# Altium footprint library Nucleo_Dory_QFN68.PcbLib: 55 footprints (part 4 of 4)
Each footprint in its own frame and in the unit in brackets; x right, y up, seen from the top. Pads: shape width x height; smd on the part's side, far side on the other; paste and mask are expansions set on the pad; w line width, h text height; cw(c..) or ccw(c..) is an arc to the next point about the centre after c.
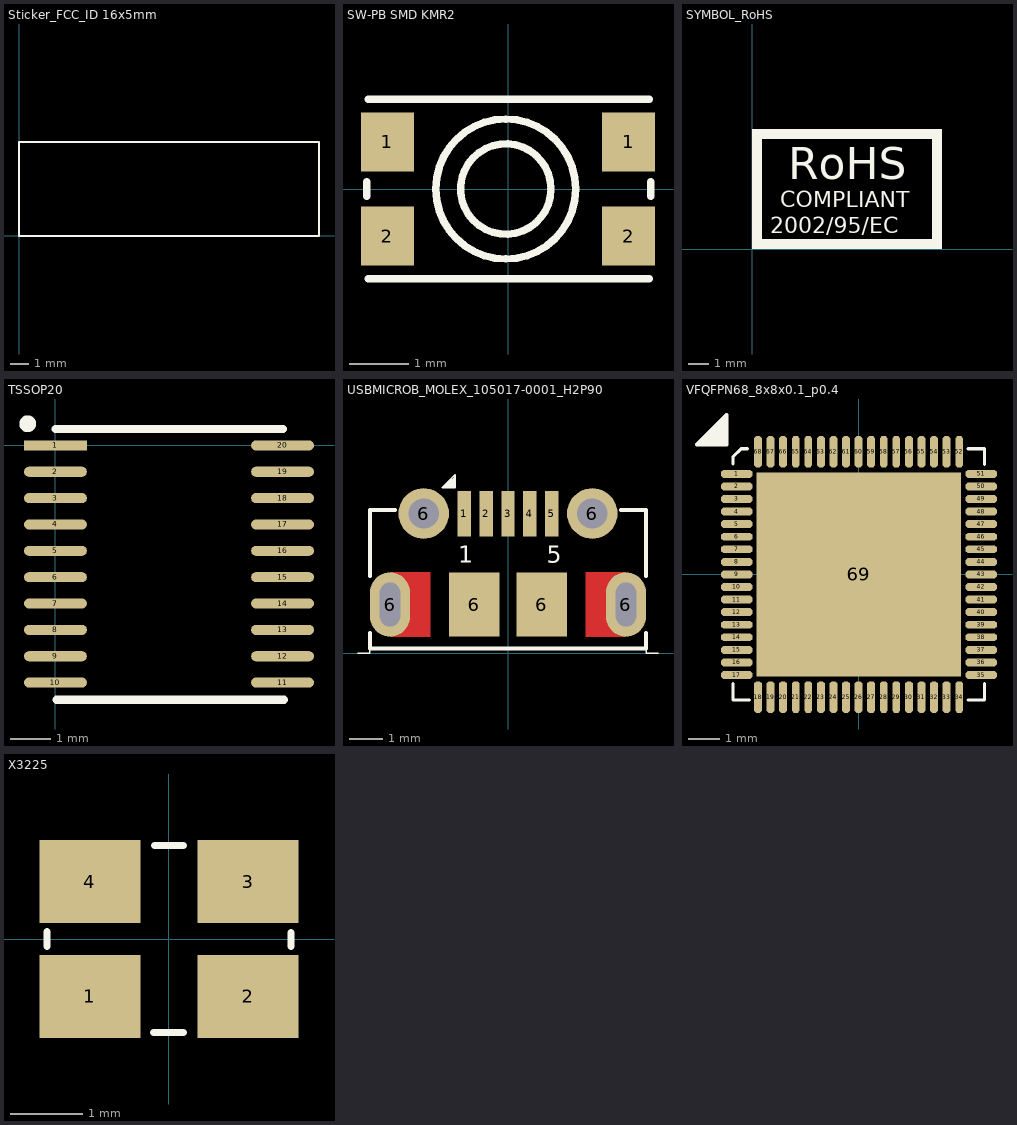
[diagram p3: the footprints below, top view; thin cyan lines are the x and y axes]

## Sticker_FCC_ID 16x5mm [mm]
Top Overlay:
  lines w0.1: 0,0 16,0 16,5 0,5 0,0
3D body: height 3.1, standoff 3, extent 0,0 16,5

## SW-PB SMD KMR2 [mm]
pads (4):
  rect 0.9x1 smd: 1(-2.05,0.8) 1(2.05,0.8) 2(-2.05,-0.8) 2(2.05,-0.8)
Top Overlay:
  circle w0.127: c-0.038,0 r0.769
  circle w0.127: c-0.038,0 r1.19
  lines w0.127: -2.4,-0.125 -2.4,0.125 ; -2.375,-1.525 2.4,-1.525 ; -2.375,1.525 2.4,1.525 ; 2.425,-0.125 2.425,0.125
3D body: height 1.79, standoff 0, extent -2.413,-1.524 2.413,1.524
3D body: height 2.52, standoff 1.79, extent -0.98,-0.923 0.912,0.974

## SYMBOL_RoHS [mm]
Top Overlay:
  rectangle: 0,0 9,0.5
  rectangle: 0,5.5 9,6
  region: 0.498,0 0.498,6 -0.002,6 -0.002,0
  region: 9.498,0 9.498,6 8.998,6 8.998,0
  text "RoHS" at 1.8,3.5 h1.6
  text "COMPLIANT" at 1.4,2.1 h0.8
  text "2002/95/EC" at 0.9,0.8 h0.8

## TSSOP20 [mm]
pads (20):
  rect 1.55x0.25 smd: 1(0,0)
  oval 1.55x0.25 smd: 2(0,-0.65) 3(0,-1.3) 4(0,-1.95) 5(0,-2.6) 6(0,-3.25) 7(0,-3.9) 8(0,-4.55) 9(0,-5.2) 10(0,-5.85) 11(5.6,-5.85) 12(5.6,-5.2) 13(5.6,-4.55) 14(5.6,-3.9) 15(5.6,-3.25) 16(5.6,-2.6) 17(5.6,-1.95) 18(5.6,-1.3) 19(5.6,-0.65) 20(5.6,0)
Top Overlay:
  circle w0.254: c-0.686,0.533 r0.08
  lines w0.2: 0,0.406 5.613,0.406 ; 0.025,-6.274 5.639,-6.274
3D body "TSSOP-20-2.STEP": height 1.2, standoff 0, extent -0.431,-6.171 5.969,0.329

## USBMICROB_MOLEX_105017-0001_H2P90 [mm]
pads (11):
  rect 0.4x1.35 smd mask+0.05: 1(-1.3,4.15) 2(-0.65,4.15) 3(0,4.15) 4(0.65,4.15) 5(1.3,4.15)
  oval 1.2x1.9 hole 0.6 slot 1.3 at 90 deg mask+0.05: 6(-3.5,1.45) 6(3.5,1.45)
  round 1.5 hole 0.9 mask+0.05: 6(-2.5,4.15) 6(2.5,4.15)
  rect 1.5x1.9 smd mask+0.05: 6(-1,1.45) 6(1,1.45)
Top Layer:
  region: 2.3,2.4 3.5,2.4 3.5,0.5 2.3,0.5
  region: -3.5,2.4 -2.3,2.4 -2.3,0.5 -3.5,0.5
Top Overlay:
  lines w0.05: -4.45,0 -4.1,0 -4.1,0.15 ; -1.599,5.025 -1.701,5.025 -1.625,4.999 -1.599,5.075 -1.802,4.974 -1.625,4.974 -1.599,4.923 -1.599,5.152 -1.777,4.948 -1.853,4.974 -1.574,5.228 -1.828,4.948 -1.904,4.948 -1.574,5.304 ; 4.1,0.15 4.1,0 4.45,0 ; -1.574,5.304 -1.955,4.923 -1.574,4.923 -1.574,5.304
  lines w0.12: -4.1,0.6 -4.1,0.15 4.1,0.15 4.1,0.6 ; -4.1,2.3 -4.1,4.25 -3.35,4.25 ; 3.35,4.25 4.1,4.25 4.1,2.3
  text "5" at 1.15,2.69 h0.51
  text "1" at -1.481,2.69 h0.51
Top Solder:
  region: -3.5,2.45 -2.25,2.45 -2.25,0.45 -3.5,0.45
  region: 2.25,2.45 3.5,2.45 3.5,0.45 2.25,0.45
Mechanical 27:
  text "PCB" at -5.65,-0.48 h0.51
  text "5" at 1.2,3.74 h0.51
  text "1" at -1.431,3.74 h0.51
  text "EDGE" at 4.563,-0.48 h0.51
3D body "MOLEX_105017-0001.stp": height 2.68, standoff -0.63, extent -4.1,-1.15 4.1,4.25
3D body: height 2.9, standoff 0, extent -3.999,0.001 3.999,4.599
3D body: height 2.9, standoff 0, extent -4.06,-0.76 4.06,4.66

## VFQFPN68_8x8x0.1_p0.4 [mm]
pads (69):
  oct 1x0.25 smd mask+0.04: 1(-3.878,3.2) 2(-3.878,2.8) 3(-3.878,2.4) 4(-3.878,2) 5(-3.878,1.6) 6(-3.878,1.2) 7(-3.878,0.8) 8(-3.878,0.4) 9(-3.878,0) 10(-3.878,-0.4) 11(-3.878,-0.8) 12(-3.878,-1.2) 13(-3.878,-1.6) 14(-3.878,-2) 15(-3.878,-2.4) 16(-3.878,-2.8) 17(-3.878,-3.2) 35(3.903,-3.2) 36(3.903,-2.8) 37(3.903,-2.4) 38(3.903,-2) 39(3.903,-1.6) 40(3.903,-1.2) 41(3.903,-0.8) 42(3.903,-0.4) 43(3.903,0) 44(3.903,0.4) 45(3.903,0.8) 46(3.903,1.2) 47(3.903,1.6) 48(3.903,2) 49(3.903,2.4) 50(3.903,2.8) 51(3.903,3.2)
  oct 0.25x1 smd mask+0.04: 18(-3.2,-3.903) 19(-2.8,-3.903) 20(-2.4,-3.903) 21(-2,-3.903) 22(-1.6,-3.903) 23(-1.2,-3.903) 24(-0.8,-3.903) 25(-0.4,-3.903) 26(0,-3.903) 27(0.4,-3.903) 28(0.8,-3.903) 29(1.2,-3.903) 30(1.6,-3.903) 31(2,-3.903) 32(2.4,-3.903) 33(2.8,-3.903) 34(3.2,-3.903) 52(3.2,3.903) 53(2.8,3.903) 54(2.4,3.903) 55(2,3.903) 56(1.6,3.903) 57(1.2,3.903) 58(0.8,3.903) 59(0.4,3.903) 60(0,3.903) 61(-0.4,3.903) 62(-0.8,3.903) 63(-1.2,3.903) 64(-1.6,3.903) 65(-2,3.903) 66(-2.4,3.903) 67(-2.8,3.903) 68(-3.2,3.903)
  rect 6.5x6.5 smd paste-5 mask-0.01: 69(0,0)
Top Overlay:
  lines w0.1: -4,-3.467 -4,-4 -3.48,-4 ; -4,3.518 -4,3.734 -3.734,4 -3.531,4 ; 3.48,-4 4,-4 4,-3.467 ; 3.48,4 4,4 4,3.493
  lines w0.127: -4.451,4.613 -5.141,4.126 ; -5.141,4.126 -4.201,5.066 ; -5.141,4.126 -4.201,4.126 ; -4.201,4.126 -4.573,4.491 -4.201,5.066 ; -4.201,4.126 -4.43,4.126 -4.201,4.355 -4.201,4.482 -4.557,4.126 -4.658,4.126 -4.201,4.584 -4.201,4.711 -4.785,4.126 -4.938,4.126 -4.201,4.863 -4.201,5.066 ; -4.201,4.126 -4.201,5.066
Top Paste:
  rectangle: -3.005,-2.921 -1.245,-1.161
  rectangle: -0.871,-2.921 0.889,-1.161
  rectangle: 1.212,-2.946 2.972,-1.186
  rectangle: -3.005,-0.88 -1.245,0.88
  rectangle: -0.88,-0.88 0.88,0.88
  rectangle: 1.212,-0.871 2.972,0.889
  rectangle: 1.219,1.194 2.979,2.954
  rectangle: -0.846,1.194 0.914,2.954
  rectangle: -2.979,1.168 -1.219,2.928
3D body: height 1.2, standoff 1.1, extent -3.703,3.002 -3.103,3.602
3D body: height 1.1, standoff 0, extent -4.013,-3.988 3.988,3.988

## X3225 [mm]
pads (4):
  rect 1.4x1.15 smd paste-2 mask-2: 1(-1.1,-0.8) 2(1.1,-0.8) 4(-1.1,0.8)
  rect 1.4x1.15 smd paste-1 mask-1: 3(1.1,0.8)
Top Overlay:
  lines w0.1: -1.7,-0.1 -1.7,0.1 ; -0.212,-1.3 0.2,-1.3 ; -0.2,1.3 0.2,1.3 ; 1.7,-0.1 1.7,0.092
Top Paste:
  region: 1.425,-0.225 1.425,-1.175 1.8,-1.175 1.8,-0.225
  region: 1.8,-1.125 0.4,-1.125 0.4,-1.375 1.8,-1.375
  region: 0.4,-0.225 0.4,-1.05 1.35,-1.05 1.35,-0.225
  region: -0.4,-1.125 -1.8,-1.125 -1.8,-1.375 -0.4,-1.375
  region: -1.425,-1.175 -1.425,-0.225 -1.8,-0.225 -1.8,-1.175
  region: -1.35,-0.225 -1.35,-1.05 -0.4,-1.05 -0.4,-0.225
  region: -1.35,1.05 -1.35,0.225 -0.4,0.225 -0.4,1.05
  region: -0.4,1.375 -1.8,1.375 -1.8,1.125 -0.4,1.125
  region: -1.425,0.225 -1.425,1.175 -1.8,1.175 -1.8,0.225
  region: 1.35,0.225 1.35,1.05 0.4,1.05 0.4,0.225
  region: 1.8,1.375 0.4,1.375 0.4,1.125 1.8,1.125
  region: 1.8,0.225 1.8,1.175 1.425,1.175 1.425,0.225
Top Solder:
  rectangle: 0.325,-1.45 1.875,-0.125
  rectangle: -1.875,-1.45 -0.325,-0.125
  rectangle: -1.875,0.125 -0.325,1.45
  rectangle: 0.325,0.125 1.875,1.45
3D body "User Library-3225-1.step": height 0.61, standoff 0, extent -1.6,-1.245 1.6,1.255